# Altium footprint library leds.PcbLib: 6 footprints
Each footprint in its own frame and in the unit in brackets; x right, y up, seen from the top. Pads: shape width x height; smd on the part's side, far side on the other; paste and mask are expansions set on the pad; w line width, h text height; cw(c..) or ccw(c..) is an arc to the next point about the centre after c.
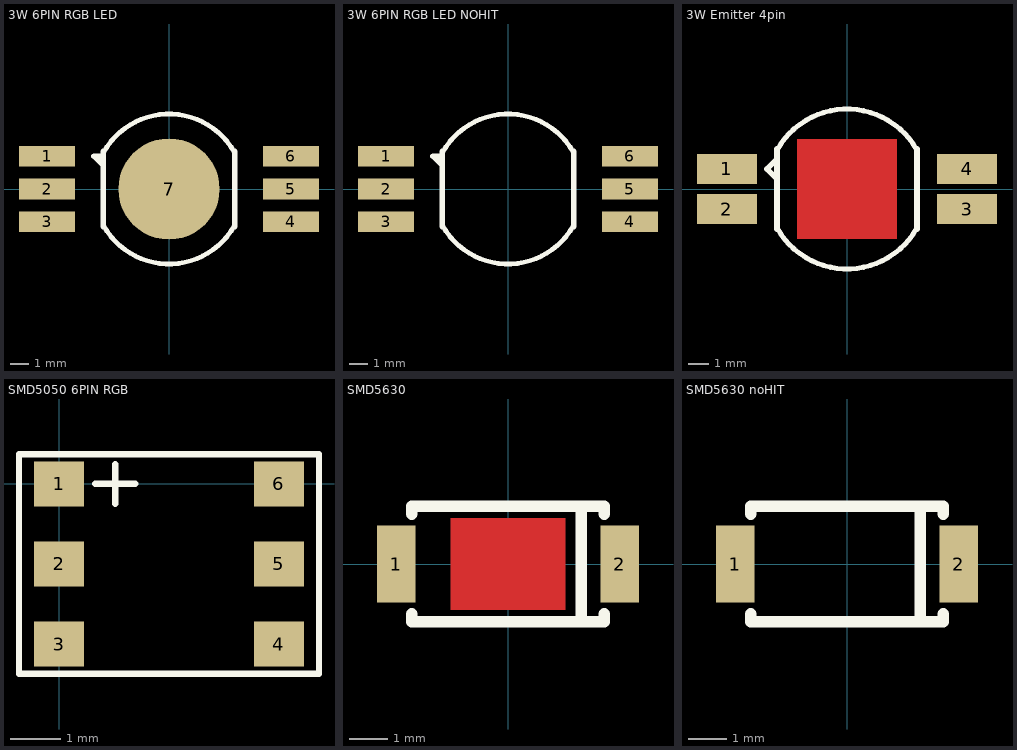
[diagram p0: the footprints below, top view; thin cyan lines are the x and y axes]

## 3W 6PIN RGB LED [mm] "3W 6PIN RGB LED"
height 6
pads (7):
  rect 3x1.1 smd: 1(-6.5,1.75) 2(-6.5,0) 3(-6.5,-1.75) 4(6.5,-1.75) 5(6.5,0) 6(6.5,1.75)
  round 5.4 smd: 7(0,0)
Top Overlay:
  lines w0.254: -3.473,-1.985 ccw(c0,0) 3.473,-1.985 ; -3.473,1.985 cw(c0,0) 3.473,1.985
  lines w0.3: -3.5,-2 -3.5,2 ; -3.5,1.25 -4,1.75 -3.5,1.75 ; 3.5,-2 3.5,2 ; -3.5,2 -3.5,2

## 3W 6PIN RGB LED NOHIT [mm] "3W 6PIN RGB LED NOHIT"
height 6
pads (6):
  rect 3x1.1 smd: 1(-6.5,1.75) 2(-6.5,0) 3(-6.5,-1.75) 4(6.5,-1.75) 5(6.5,0) 6(6.5,1.75)
Top Overlay:
  lines w0.254: -3.473,-1.985 ccw(c0,0) 3.473,-1.985 ; -3.473,1.985 cw(c0,0) 3.473,1.985
  lines w0.3: -3.5,-2 -3.5,2 ; -3.5,1.25 -4,1.75 -3.5,1.75 ; 3.5,-2 3.5,2 ; -3.5,2 -3.5,2

## 3W Emitter 4pin [mm] "3 Color smd LED 3W"
height 5
pads (4):
  rect 3x1.5 smd: 1(-6,1) 2(-6,-1) 3(6,-1) 4(6,1)
Top Layer:
  rectangle: -2.5,-2.5 2.5,2.5
Top Overlay:
  lines w0.254: -3.473,-1.985 ccw(c0,0) 3.473,-1.985 ; -3.473,1.985 cw(c0,0) 3.473,1.985
  lines w0.3: -3.5,-2 -3.5,2 ; -3.5,0.5 -4,1 -3.5,1.5 ; 3.5,-2 3.5,2 ; -3.5,2 -3.5,2

## SMD5050 6PIN RGB [mm]
pads (6):
  rect 1x0.9 smd: 1(0,0) 2(0,-1.6) 3(0,-3.2) 4(4.4,-3.2) 5(4.4,-1.6) 6(4.4,0)
Top Overlay:
  lines w0.13: 0.727,0 1.527,0 ; 1.127,-0.4 1.127,0.4 ; -0.8,-3.8 -0.8,0.6 5.2,0.6 5.2,-3.8 -0.8,-3.8

## SMD5630 [mm] "SMD/SMT 5630/5730"
height 1
pads (2):
  rect 1x2 smd: 1(-2.9,0) 2(2.9,0)
Top Layer:
  rectangle: -1.5,-1.2 1.5,1.2
Top Overlay:
  lines w0.3: -2.5,-1.3 -2.5,-1.5 2.5,-1.5 2.5,-1.3 ; -2.5,1.3 -2.5,1.5 2.5,1.5 2.5,1.3 ; 1.9,-1.5 1.9,1.5

## SMD5630 noHIT [mm] "SMD/SMT 5630/5730"
height 1
pads (2):
  rect 1x2 smd: 1(-2.9,0) 2(2.9,0)
Top Overlay:
  lines w0.3: -2.5,-1.3 -2.5,-1.5 2.5,-1.5 2.5,-1.3 ; -2.5,1.3 -2.5,1.5 2.5,1.5 2.5,1.3 ; 1.9,-1.5 1.9,1.5